# Altium footprint library CONN HEADER 2.50MM PITCH.PcbLib: 52 footprints (part 4 of 4)
Each footprint in its own frame and in the unit in brackets; x right, y up, seen from the top. Pads: shape width x height; smd on the part's side, far side on the other; paste and mask are expansions set on the pad; w line width, h text height; cw(c..) or ccw(c..) is an arc to the next point about the centre after c.
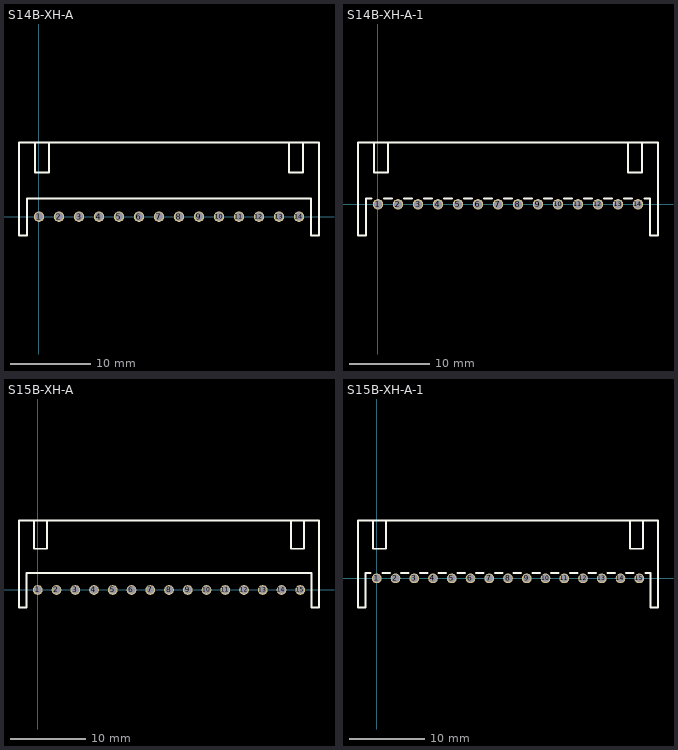
[diagram p3: the footprints below, top view; thin cyan lines are the x and y axes]

## S14B-XH-A [mm] "S14B-XH-A"
height 6.1
pads (14):
  round 1.3 hole 1: 1(0,0) 2(2.5,0) 3(5,0) 4(7.5,0) 5(10,0) 6(12.5,0) 7(15,0) 8(17.5,0) 9(20,0) 10(22.5,0) 11(25,0) 12(27.5,0) 13(30,0) 14(32.5,0)
Top Overlay:
  lines w0.254: -2.5,-2.325 -1.5,-2.325 -1.5,2.25 34,2.25 34,-2.325 35,-2.325 35,9.25 -2.5,9.25 -2.5,-2.25 ; -0.5,9.25 -0.5,5.5 1.25,5.5 1.25,9.25 ; 31.25,9.25 31.25,5.5 33,5.5 33,9.25
3D body "S14B-XH-A.STEP": height 6.17, standoff -3.37, extent -2.45,-2.35 34.95,9.15

## S14B-XH-A-1 [mm] "S14B-XH-A-1"
height 6.1
pads (14):
  round 1.3 hole 1: 1(0,0) 2(2.5,0) 3(5,0) 4(7.5,0) 5(10,0) 6(12.5,0) 7(15,0) 8(17.5,0) 9(20,0) 10(22.5,0) 11(25,0) 12(27.5,0) 13(30,0) 14(32.5,0)
Top Overlay:
  lines w0.254: -2.5,-3.875 -1.5,-3.875 -1.5,0.7 -0.8,0.7 ; -2.5,-3.8 -2.5,7.7 35,7.7 35,-3.875 34,-3.875 34,0.7 33.3,0.7 ; -0.5,7.7 -0.5,3.95 1.25,3.95 1.25,7.7 ; 0.75,0.7 1.75,0.7 ; 3.25,0.7 4.25,0.7 ; 5.75,0.7 6.75,0.7 ; 8.25,0.7 9.25,0.7 ; 10.75,0.7 11.75,0.7 ; 13.25,0.7 14.25,0.7 ; 15.75,0.7 16.75,0.7 ; 18.25,0.7 19.25,0.7 ; 20.75,0.7 21.75,0.7 ; 23.25,0.7 24.25,0.7 ; 25.75,0.7 26.75,0.7 ; 28.25,0.7 29.25,0.7 ; 30.75,0.7 31.75,0.7 ; 31.25,7.7 31.25,3.95 33,3.95 33,7.7
3D body "S14B-XH-A-1.STEP": height 6.15, standoff -3.4, extent -2.45,-3.9 34.95,7.6

## S15B-XH-A [mm] "S15B-XH-A"
height 6.1
pads (15):
  round 1.3 hole 1: 1(0,0) 2(2.5,0) 3(5,0) 4(7.5,0) 5(10,0) 6(12.5,0) 7(15,0) 8(17.5,0) 9(20,0) 10(22.5,0) 11(25,0) 12(27.5,0) 13(30,0) 14(32.5,0) 15(35,0)
Top Overlay:
  lines w0.254: -2.5,-2.325 -1.5,-2.325 -1.5,2.25 36.5,2.25 36.5,-2.325 37.5,-2.325 37.5,9.25 -2.5,9.25 -2.5,-2.25 ; -0.5,9.25 -0.5,5.5 1.25,5.5 1.25,9.25 ; 33.75,9.25 33.75,5.5 35.5,5.5 35.5,9.25
3D body "S15B-XH-A.STEP": height 6.15, standoff -3.4, extent -2.45,-2.25 37.45,9.25

## S15B-XH-A-1 [mm] "S15B-XH-A-1"
height 6.1
pads (15):
  round 1.3 hole 1: 1(0,0) 2(2.5,0) 3(5,0) 4(7.5,0) 5(10,0) 6(12.5,0) 7(15,0) 8(17.5,0) 9(20,0) 10(22.5,0) 11(25,0) 12(27.5,0) 13(30,0) 14(32.5,0) 15(35,0)
Top Overlay:
  lines w0.254: -2.5,-3.875 -1.5,-3.875 -1.5,0.7 -0.8,0.7 ; -2.5,-3.8 -2.5,7.7 37.5,7.7 37.5,-3.875 36.5,-3.875 36.5,0.7 35.8,0.7 ; -0.5,7.7 -0.5,3.95 1.25,3.95 1.25,7.7 ; 0.75,0.7 1.75,0.7 ; 3.25,0.7 4.25,0.7 ; 5.75,0.7 6.75,0.7 ; 8.25,0.7 9.25,0.7 ; 10.75,0.7 11.75,0.7 ; 13.25,0.7 14.25,0.7 ; 15.75,0.7 16.75,0.7 ; 18.25,0.7 19.25,0.7 ; 20.75,0.7 21.75,0.7 ; 23.25,0.7 24.25,0.7 ; 25.75,0.7 26.75,0.7 ; 28.25,0.7 29.25,0.7 ; 30.75,0.7 31.75,0.7 ; 33.25,0.7 34.25,0.7 ; 33.75,7.7 33.75,3.95 35.5,3.95 35.5,7.7
3D body "S15B-XH-A-1.STEP": height 6.15, standoff -3.4, extent -2.45,-3.875 37.45,7.625